# Altium footprint library SON50P200X60_HS-9N.PcbLib: 2 footprints
Each footprint in its own frame and in the unit in brackets; x right, y up, seen from the top. Pads: shape width x height; smd on the part's side, far side on the other; paste and mask are expansions set on the pad; w line width, h text height; cw(c..) or ccw(c..) is an arc to the next point about the centre after c.
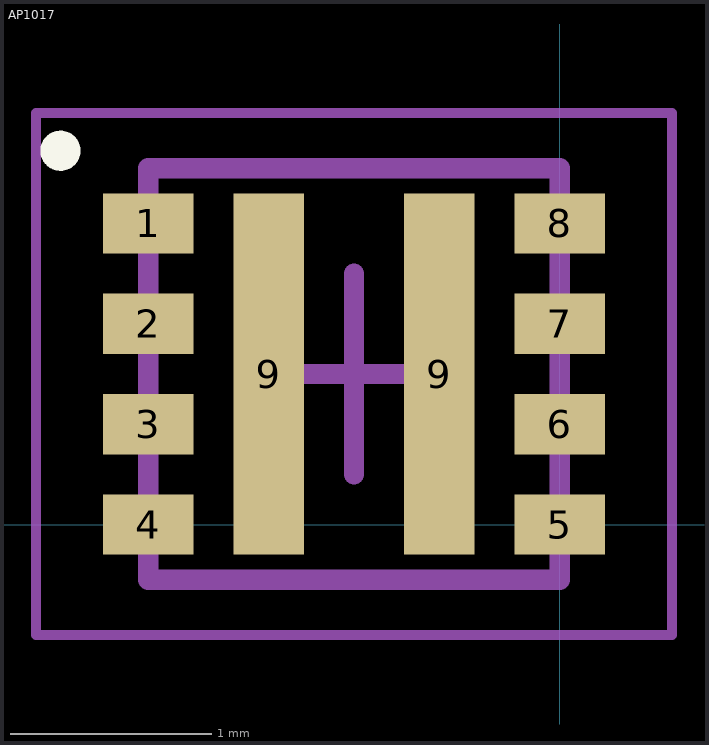
[diagram p0: the footprints below, top view; thin cyan lines are the x and y axes]

## AP1017 [mm] "SON, 8-Leads, Body 2.00x2.00mm, Pitch 0.50mm, Thermal Pad 1.80x1.07mm, IPC Medium Density"
height 0.6
pads (10):
  rect 0.45x0.3 smd: 1(-2.05,1.5) 2(-2.05,1) 3(-2.05,0.5) 4(-2.05,0) 5(0,0) 6(0,0.5) 7(0,1) 8(0,1.5)
  rect 0.35x1.8 smd: 9(-1.45,0.75) 9(-0.6,0.75)
Top Overlay:
  circle w0.1: c-2.487,1.862 r0.05
Mechanical 13:
  lines w0.1: -2.05,-0.275 -2.05,1.775 0,1.775 0,-0.275 -2.05,-0.275
Mechanical 15:
  lines w0.05: -2.61,-0.55 -2.61,2.05 0.56,2.05 0.56,-0.55 -2.61,-0.55
  lines w0.1: -1.525,0.75 -0.525,0.75 ; -1.025,0.25 -1.025,1.25
3D body: height 0.6, standoff 0, extent -2.05,-0.275 0,1.775

## PCBComponent_1 [mm]